# Altium schematic symbol library SnapEDAsch.SchLib: 1 symbol
Pins are listed as number, name and electrical type; pins without a type are passive.

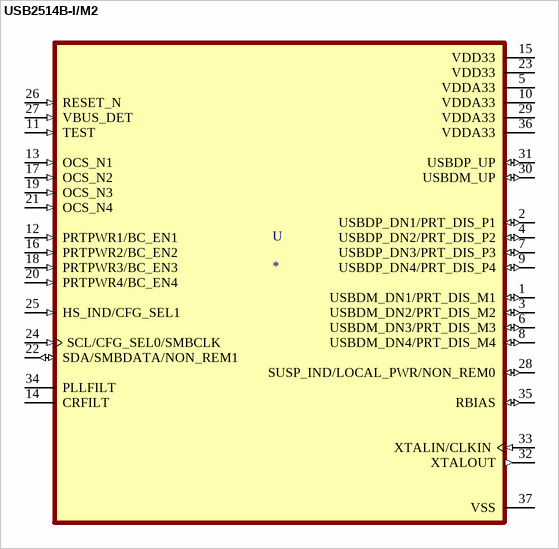
[diagram p0: symbol USB2514B-I/M2]

## USB2514B-I/M2
designator U
USB Hub Controller USB Interface 36-SQFN _6x6_; MP: USB2514B-I/M2; MF: Microchip; Package: VQFN-36 Microchip; SnapEDA_Link: https://www.snapeda.com/parts/USB2514B-I/M2/Microchip/view-part/1237349/?ref=snap; Price: None; Availability: Unavailable; Value: *
footprint QFN50P600X600X100-37N
pins: 1 USBDM_DN1/PRT_DIS_M1 (io), 2 USBDP_DN1/PRT_DIS_P1 (io), 3 USBDM_DN2/PRT_DIS_M2 (io), 4 USBDP_DN2/PRT_DIS_P2 (io), 5 VDDA33 (power), 6 USBDM_DN3/PRT_DIS_M3 (io), 7 USBDP_DN3/PRT_DIS_P3 (io), 8 USBDM_DN4/PRT_DIS_M4 (io), 9 USBDP_DN4/PRT_DIS_P4 (io), 10 VDDA33 (power), 11 TEST (in), 12 PRTPWR1/BC_EN1 (in), 13 OCS_N1 (in), 14 CRFILT, 15 VDD33 (power), 16 PRTPWR2/BC_EN2 (in), 17 OCS_N2 (in), 18 PRTPWR3/BC_EN3 (in), 19 OCS_N3 (in), 20 PRTPWR4/BC_EN4 (in), 21 OCS_N4 (in), 22 SDA/SMBDATA/NON_REM1 (io), 23 VDD33 (power), 24 SCL/CFG_SEL0/SMBCLK (in), 25 HS_IND/CFG_SEL1 (in), 26 RESET_N (in), 27 VBUS_DET (in), 28 SUSP_IND/LOCAL_PWR/NON_REM0 (io), 29 VDDA33 (power), 30 USBDM_UP (io), 31 USBDP_UP (io), 32 XTALOUT (out), 33 XTALIN/CLKIN (in), 34 PLLFILT, 35 RBIAS (io), 36 VDDA33 (power), 37 VSS (power)